# EAGLE library part I7C(FF)*? (library linear-tdk-Lamba)
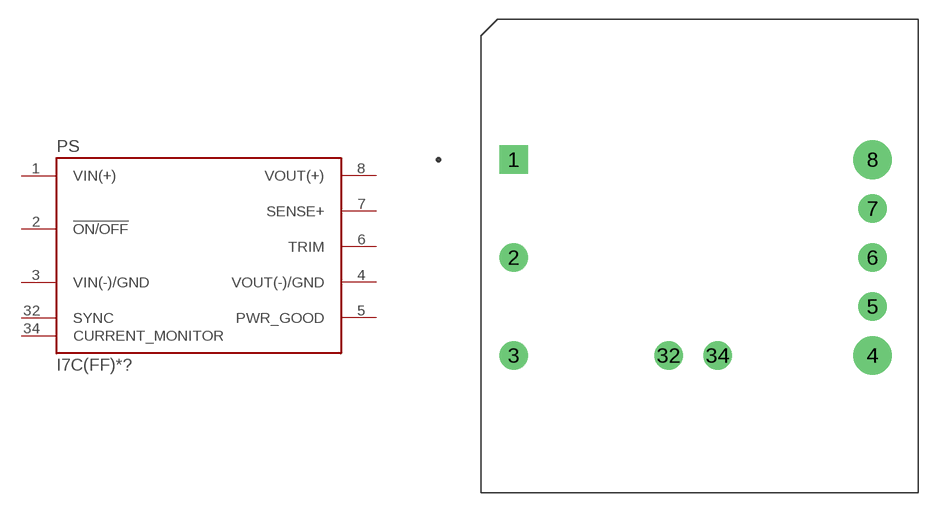
[diagram p0: symbol with the pads of IC7_11_PIN_1/16_BRICK; footprint IC7_11_PIN_1/16_BRICK]

Designator prefix PS

## I7C(FF)2W020A120V-002-R (BASEPLATE: NO; FULL_FEATURE: YES; HEATSINK: NO; MAX_AMPS: 20.0 A; MAX_POWER: 300 W; ON_OFF_LOGIC: Positive; PACKAGE_TYPE: 1/16 Brick 11 pin; VALUE: i7C4W020A120V-002-R; VDC_IN: 9 to 36 VDC; VDC_OUT: 8.0 to 24 VDC), I7C(FF)4W008A120V-002-R (BASEPLATE: NO; FULL_FEATURE: YES; HEATSINK: NO; MAX_AMPS: 8.0 A; MAX_POWER: 300 W; ON_OFF_LOGIC: Positive; PACKAGE_TYPE: 1/16 Brick 11 pin; VALUE: i7C4W008A120V-002-R; VDC_IN: 9 to 53 VDC; VDC_OUT: 9.6 to 48 VDC), I7C(FF)4W012A050V-002-R (BASEPLATE: NO; FULL_FEATURE: YES; HEATSINK: NO; MAX_AMPS: 12.5 A; MAX_POWER: 300 W; ON_OFF_LOGIC: Positive; PACKAGE_TYPE: 1/16 Brick 11 pin; VALUE: i7C4W012A050V-002-R; VDC_IN: 9 to 53 VDC; VDC_OUT: 5.0 to 28 VDC)  [IC7_11_PIN_1/16_BRICK]
1  VIN(+)  in
2  !ON/OFF  in
3  VIN(-)/GND  in
4  VOUT(-)/GND  out
5  PWR_GOOD  out
6  TRIM  pas
7  SENSE+  in
8  VOUT(+)  out
32  SYNC  in
34  CURRENT_MONITOR  in

## I7C(FF)2W020A120V-003-R (BASEPLATE: NO; FULL_FEATURE: YES; HEATSINK: NO; MAX_AMPS: 20.0 A; MAX_POWER: 300 W; ON_OFF_LOGIC: Negative; PACKAGE_TYPE: 1/16 Brick 11 pin; VALUE: i7C4W020A120V-003-R; VDC_IN: 9 to 36 VDC; VDC_OUT: 8.0 to 24 VDC), I7C(FF)4W008A120V-003-R (BASEPLATE: NO; FULL_FEATURE: YES; HEATSINK: NO; MAX_AMPS: 8.0 A; MAX_POWER: 300 W; ON_OFF_LOGIC: Negative; PACKAGE_TYPE: 1/16 Brick 11 pin; VALUE: i7C4W008A120V-003-R; VDC_IN: 9 to 53 VDC; VDC_OUT: 9.6 to 48 VDC), I7C(FF)4W008A120V-0C3-R (BASEPLATE: YES; FULL_FEATURE: YES; HEATSINK: NO; MAX_AMPS: 8.0 A; MAX_POWER: 300 W; ON_OFF_LOGIC: Negative; PACKAGE_TYPE: 1/16 Brick 11 pin; VALUE: i7C4W008A120V-0C3-R; VDC_IN: 9 to 53 VDC; VDC_OUT: 9.6 to 48 VDC), I7C(FF)4W012A050V-003-R (BASEPLATE: NO; FULL_FEATURE: YES; HEATSINK: NO; MAX_AMPS: 12.5 A; MAX_POWER: 300 W; ON_OFF_LOGIC: Negative; PACKAGE_TYPE: 1/16 Brick 11 pin; VALUE: i7C4W012A050V-003-R; VDC_IN: 9 to 53 VDC; VDC_OUT: 5.0 to 28 VDC), I7C(FF)4W012A050V-0C3-R (BASEPLATE: YES; FULL_FEATURE: YES; HEATSINK: NO; MAX_AMPS: 12.5 A; MAX_POWER: 300 W; ON_OFF_LOGIC: Negative; PACKAGE_TYPE: 1/16 Brick 11 pin; VALUE: i7C4W012A050V-0C3-R; VDC_IN: 9 to 53 VDC; VDC_OUT: 5.0 to 28 VDC)  [IC7_11_PIN_1/16_BRICK]
Pads as for IC7_11_PIN_1/16_BRICK

## Footprint IC7_11_PIN_1/16_BRICK (pad centres in mm)
drill 1.47 square: 1 -14.478,7.493
drill 1.47: 2 -14.478,-0.127; 3 -14.478,-7.747; 5 13.462,-3.937; 6 13.462,-0.127; 7 13.462,3.683; 32 -2.413,-7.747; 34 1.397,-7.747
drill 2.02: 4 13.462,-7.747; 8 13.462,7.493